# Altium footprint library lib_ic_FOOTPRINTS.PcbLib: 45 footprints (part 3 of 3)
Each footprint in its own frame and in the unit in brackets; x right, y up, seen from the top. Pads: shape width x height; smd on the part's side, far side on the other; paste and mask are expansions set on the pad; w line width, h text height; cw(c..) or ccw(c..) is an arc to the next point about the centre after c.
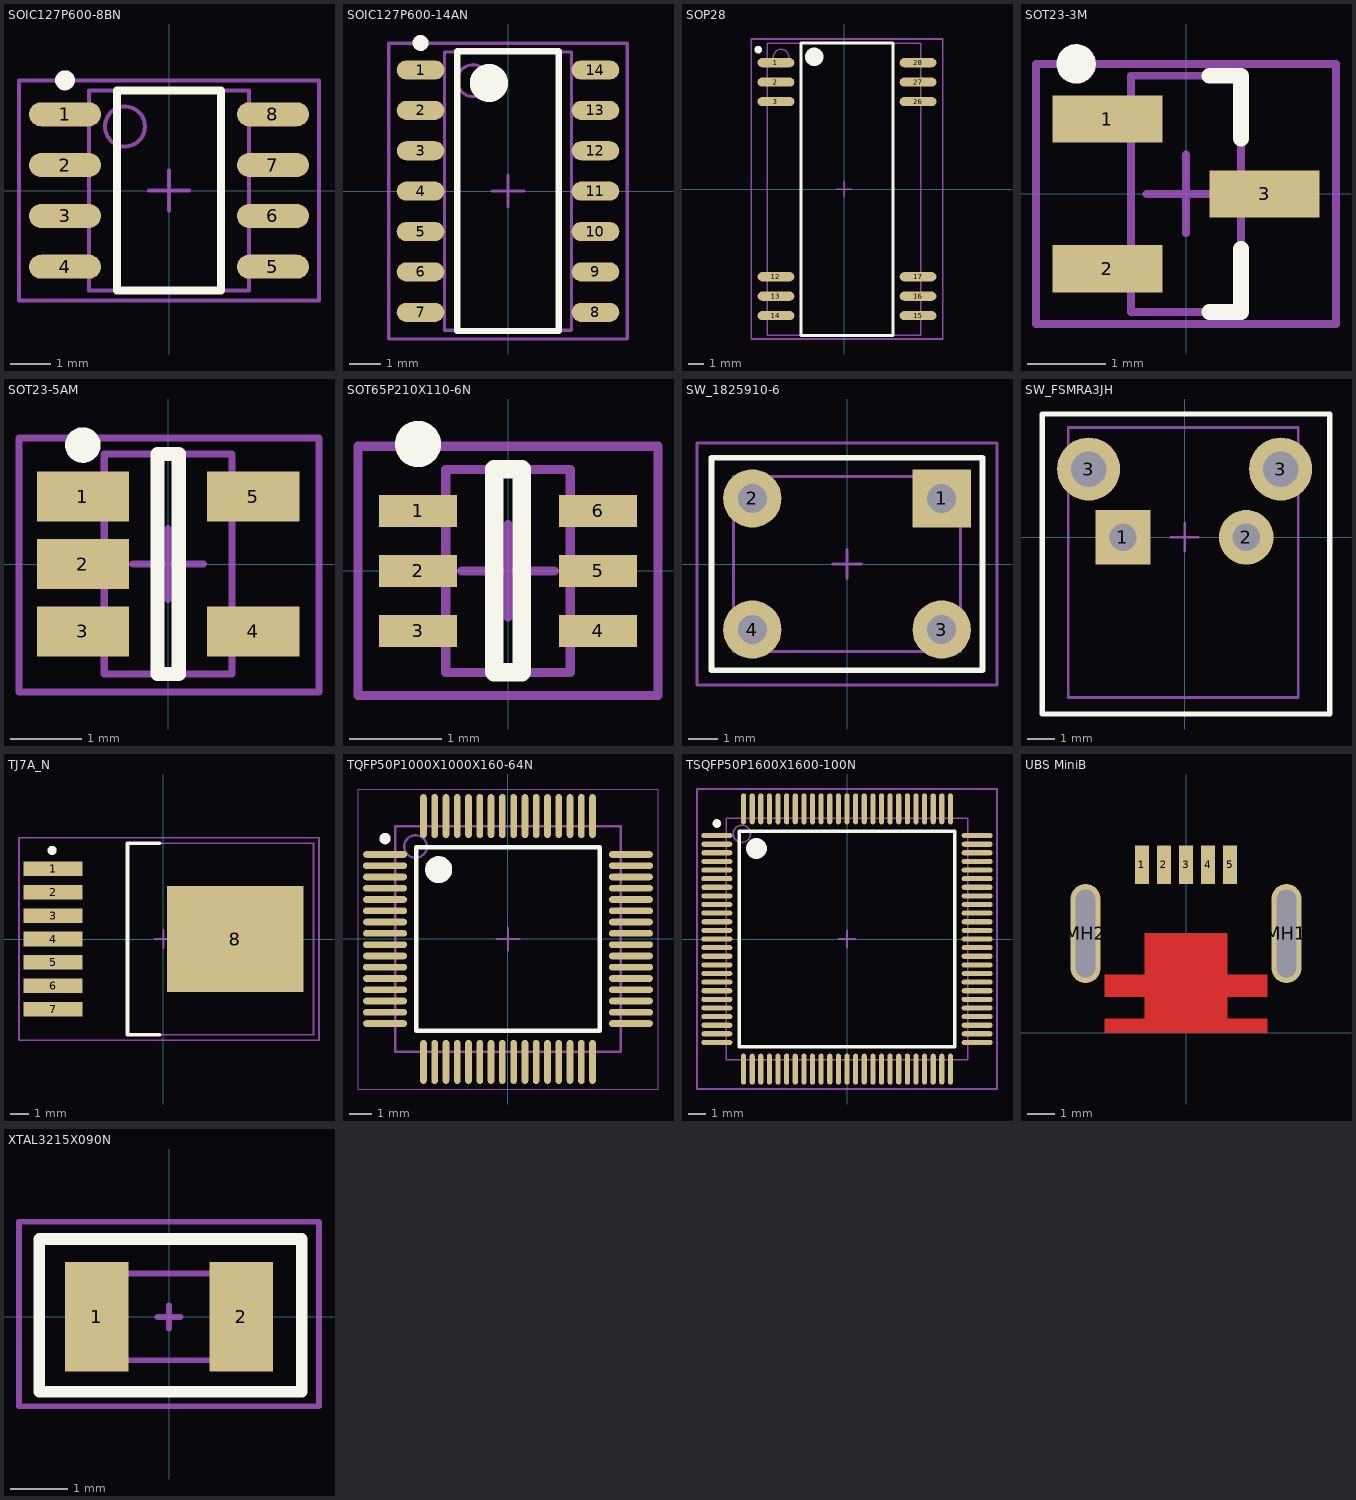
[diagram p2: the footprints below, top view; thin cyan lines are the x and y axes]

## SOIC127P600-8BN [mm] "SOIC, 8-Leads, Body 4.9x3.9mm, Pitch 1.27mm, IPC Medium Density"
height 2.59
pads (8):
  oval 1.8x0.6 smd: 1(-2.6,1.905) 2(-2.6,0.635) 3(-2.6,-0.635) 4(-2.6,-1.905) 5(2.6,-1.905) 6(2.6,-0.635) 7(2.6,0.635) 8(2.6,1.905)
Top Overlay:
  circle w0.25: c-2.6,2.755 r0.125
  lines w0.2: -1.3,-2.5 1.3,-2.5 1.3,2.5 -1.3,2.5 -1.3,-2.5
Mechanical 13:
  circle w0.1: c-1.1,1.6 r0.5
  lines w0.1: -2,-2.5 2,-2.5 2,2.5 -2,2.5 -2,-2.5
Mechanical 15:
  lines w0.1: -0.5,0 0.5,0 ; 0,-0.5 0,0.5 ; -3.75,-2.75 3.75,-2.75 3.75,2.75 -3.75,2.75 -3.75,-2.75
3D body: height 1.75, standoff 0, extent -3,-2.45 3,2.45

## SOIC127P600-14AN [mm] "SOIC, 14-Leads, Body 8.6x3.9mm, Pitch 1.27mm, IPC Medium Density"
height 1.73
pads (14):
  oval 1.5x0.6 smd: 1(-2.75,3.81) 2(-2.75,2.54) 3(-2.75,1.27) 4(-2.75,0) 5(-2.75,-1.27) 6(-2.75,-2.54) 7(-2.75,-3.81) 8(2.75,-3.81) 9(2.75,-2.54) 10(2.75,-1.27) 11(2.75,0) 12(2.75,1.27) 13(2.75,2.54) 14(2.75,3.81)
Top Overlay:
  circle w0.25: c-2.75,4.66 r0.125
  circle w0.6: c-0.6,3.4 r0.3
  lines w0.2: -1.6,-4.4 -1.6,4.4 1.6,4.4 1.6,-4.4 -1.6,-4.4
Mechanical 13:
  circle w0.1: c-1.1,3.475 r0.5
  lines w0.1: -2,-4.375 -2,4.375 2,4.375 2,-4.375 -2,-4.375
Mechanical 15:
  lines w0.1: -0.5,0 0.5,0 ; 0,-0.5 0,0.5 ; -3.75,-4.65 -3.75,4.65 3.75,4.65 3.75,-4.65 -3.75,-4.65
3D body: height 1.75, standoff 0, extent -3,-4.375 3,4.375

## SOP28 [mm] "28-Pin Plastic Battery Snaphat Small Outline Package 1.27 mm Pitch"
height 3.05
pads (12):
  oval 2.4x0.6 smd: 1(-4.445,8.255) 2(-4.445,6.985) 3(-4.445,5.715) 12(-4.445,-5.715) 13(-4.445,-6.985) 14(-4.445,-8.255) 15(4.826,-8.255) 16(4.826,-6.985) 17(4.826,-5.715) 26(4.826,5.715) 27(4.826,6.985) 28(4.826,8.255)
Top Overlay:
  circle w0.25: c-5.6,9.105 r0.125
  circle w0.6: c-1.951,8.636 r0.3
  lines w0.2: -2.809,-9.525 -2.809,9.525 ; -2.794,-9.55 3.175,-9.55 ; -2.794,9.55 3.175,9.55 ; 3.19,-9.55 3.19,9.55
Mechanical 13:
  circle w0.1: c-4.115,8.625 r0.5
  lines w0.1: -5.015,-9.525 -5.015,9.525 5.015,9.525 5.015,-9.525 -5.015,-9.525
Mechanical 15:
  lines w0.1: -6.06,9.8 -6.06,-9.779 6.441,-9.779 6.441,9.8 ; -6.032,9.8 6.413,9.8 ; -0.5,0 0.5,0 ; 0,-0.5 0,0.5

## SOT23-3M [mm] "SOT23, 3-Leads, Body 2.9x1.3mm, Pitch 0.95mm, Lead Span 2.5mm, IPC Low Density"
height 1.1
pads (3):
  rect 1.397x0.6 smd: 1(-1,0.95) 2(-1,-0.95) 3(1,0)
Top Overlay:
  circle w0.25: c-1.395,1.651 r0.125
  lines w0.2: 0.3,-1.5 0.7,-1.5 0.7,-0.7 ; 0.3,1.5 0.7,1.5 0.7,0.7
Mechanical 13:
  lines w0.1: -0.7,-1.5 0.7,-1.5 0.7,1.5 -0.7,1.5 -0.7,-1.5
Mechanical 15:
  lines w0.1: -0.5,0 0.5,0 ; 0,-0.5 0,0.5 ; -1.905,-1.651 1.905,-1.651 1.905,1.651 -1.905,1.651 -1.905,-1.651
3D body: height 1.06, standoff -0.04, extent -1.25,-1.5 1.25,1.5

## SOT23-5AM [mm] "SOT23, 5-Leads, Body 2.9x1.7mm, Pitch 0.95mm, Lead Span 2.8mm, IPC Low Density"
height 1.45
pads (5):
  rect 1.3x0.7 smd: 1(-1.2,0.95) 2(-1.2,0) 3(-1.2,-0.95) 4(1.2,-0.95) 5(1.2,0.95)
Top Overlay:
  circle w0.25: c-1.2,1.675 r0.125
  lines w0.2: -0.15,-1.55 0.15,-1.55 0.15,1.55 -0.15,1.55 -0.15,-1.55
Mechanical 13:
  lines w0.1: -0.9,-1.55 -0.9,1.55 0.9,1.55 0.9,-1.55 -0.9,-1.55
Mechanical 15:
  lines w0.1: -0.5,0 0.5,0 ; 0,-0.5 0,0.5 ; -2.1,-1.8 -2.1,1.775 2.125,1.775 2.125,-1.8 -2.1,-1.8
3D body: height 1.06, standoff -0.04, extent -1.186,-1.5 1.314,1.5

## SOT65P210X110-6N [mm] "SOT23, 6-Leads, Body 2,2x2,4mm (max), Pitch 0,65mm, IPC Medium Density"
height 1.1
pads (6):
  rect 0.85x0.35 smd: 1(-0.975,0.65) 2(-0.975,0) 3(-0.975,-0.65) 4(0.975,-0.65) 5(0.975,0) 6(0.975,0.65)
Top Overlay:
  circle w0.25: c-0.975,1.375 r0.125
  lines w0.2: -0.15,-1.1 -0.15,1.1 0.15,1.1 0.15,-1.1 -0.15,-1.1
Mechanical 13:
  lines w0.1: -0.675,-1.1 0.675,-1.1 0.675,1.1 -0.675,1.1 -0.675,-1.1
Mechanical 15:
  lines w0.1: -0.5,0 0.5,0 ; 0,-0.5 0,0.5 ; -1.625,-1.35 1.625,-1.35 1.625,1.35 -1.625,1.35 -1.625,-1.35
3D body: height 1.1, standoff 0.05, extent -0.675,-1.1 0.675,1.1

## SW_1825910-6 [mm] "1825910-6 (Formerly FSM4JH) Push Button"
pads (4):
  rect 2x2 hole 1: 1(3.25,2.25)
  round 2 hole 1: 2(-3.25,2.25) 3(3.25,-2.25) 4(-3.25,-2.25)
Top Overlay:
  lines w0.2: -4.65,-3.65 4.65,-3.65 4.65,3.65 -4.65,3.65 -4.65,-3.65
Mechanical 13:
  lines w0.1: -3.9,-3 -3.9,3 3.9,3 3.9,-3 -3.9,-3
Mechanical 15:
  lines w0.1: -0.5,0 0.5,0 ; 0,-0.5 0,0.5 ; -5.15,-4.15 -5.15,4.15 5.15,4.15 5.15,-4.15 -5.15,-4.15
3D body: height 5, standoff -3.51, extent -3.9,-2.995 3.9,2.995

## SW_FSMRA3JH [mm] "FSMRA3JH Push Button"
pads (4):
  rect 2x2 hole 1: 1(-2.25,0)
  round 2 hole 1: 2(2.25,0)
  round 2.3 hole 1.3: 3(-3.505,2.49) 3(3.505,2.49)
Top Overlay:
  lines w0.2: -5.2,-6.45 5.3,-6.45 5.3,4.5 -5.2,4.5 -5.2,-6.45
Mechanical 13:
  lines w0.1: -4.25,-5.85 -4.25,4.01 4.15,4.01 4.15,-5.85 -4.25,-5.85
Mechanical 15:
  lines w0.1: -0.5,0 0.5,0 ; 0,-0.5 0,0.5 ; -5.2,-6.45 -5.2,4.5 5.3,4.5 5.3,-6.45 -5.2,-6.45
3D body: height 7, standoff -3.52, extent -4.254,-5.851 4.154,3.991

## TJ7A_N [mm] "D2-PAK, 8-Leads, Body 9.9x10.2mm, Pitch 1.27mm, Lead Span 14mm, IPC Medium Density"
height 2.1
pads (8):
  rect 3.2x0.8 smd: 1(-6,3.81) 2(-6,2.54) 3(-6,1.27) 4(-6,0) 5(-6,-1.27) 6(-6,-2.54) 7(-6,-3.81)
  rect 7.4x5.75 smd: 8(3.9,0)
Top Overlay:
  circle w0.25: c-6.05,4.815 r0.125
  lines w0.2: -0.2,-5.2 -1.95,-5.2 -1.95,5.2 -0.2,5.2
Mechanical 13:
  lines w0.1: -1.95,-5.2 -1.95,5.2 8.15,5.2 8.15,-5.2 -1.95,-5.2
Mechanical 15:
  lines w0.1: -0.5,0 0.5,0 ; 0,-0.5 0,0.5 ; -7.85,-5.5 -7.85,5.5 8.45,5.5 8.45,-5.5 -7.85,-5.5
3D body: height 2.1, standoff 0, extent -1.949,-5.199 8.149,5.199

## TQFP50P1000X1000X160-64N [mm] "TQFP, 64-Leads, Body 10,00x10,00mm, Pitch 0,50mm, IPC Medium Density"
height 1.6
pads (64):
  oval 1.95x0.3 smd: 1(-5.45,3.75) 2(-5.45,3.25) 3(-5.45,2.75) 4(-5.45,2.25) 5(-5.45,1.75) 6(-5.45,1.25) 7(-5.45,0.75) 8(-5.45,0.25) 9(-5.45,-0.25) 10(-5.45,-0.75) 11(-5.45,-1.25) 12(-5.45,-1.75) 13(-5.45,-2.25) 14(-5.45,-2.75) 15(-5.45,-3.25) 16(-5.45,-3.75) 33(5.45,-3.75) 34(5.45,-3.25) 35(5.45,-2.75) 36(5.45,-2.25) 37(5.45,-1.75) 38(5.45,-1.25) 39(5.45,-0.75) 40(5.45,-0.25) 41(5.45,0.25) 42(5.45,0.75) 43(5.45,1.25) 44(5.45,1.75) 45(5.45,2.25) 46(5.45,2.75) 47(5.45,3.25) 48(5.45,3.75)
  oval 0.3x1.95 smd: 17(-3.75,-5.45) 18(-3.25,-5.45) 19(-2.75,-5.45) 20(-2.25,-5.45) 21(-1.75,-5.45) 22(-1.25,-5.45) 23(-0.75,-5.45) 24(-0.25,-5.45) 25(0.25,-5.45) 26(0.75,-5.45) 27(1.25,-5.45) 28(1.75,-5.45) 29(2.25,-5.45) 30(2.75,-5.45) 31(3.25,-5.45) 32(3.75,-5.45) 49(3.75,5.45) 50(3.25,5.45) 51(2.75,5.45) 52(2.25,5.45) 53(1.75,5.45) 54(1.25,5.45) 55(0.75,5.45) 56(0.25,5.45) 57(-0.25,5.45) 58(-0.75,5.45) 59(-1.25,5.45) 60(-1.75,5.45) 61(-2.25,5.45) 62(-2.75,5.45) 63(-3.25,5.45) 64(-3.75,5.45)
Top Overlay:
  circle w0.6: c-3.075,3.075 r0.3
  circle w0.25: c-5.45,4.45 r0.125
  lines w0.2: -4.075,-4.075 4.075,-4.075 4.075,4.075 -4.075,4.075 -4.075,-4.075
Mechanical 13:
  circle w0.1: c-4.1,4.1 r0.5
  lines w0.1: -5,-5 5,-5 5,5 -5,5 -5,-5
Mechanical 15:
  lines w0.05: -6.65,-6.65 6.65,-6.65 6.65,6.65 -6.65,6.65 -6.65,-6.65
  lines w0.1: -0.5,0 0.5,0 ; 0,-0.5 0,0.5
3D body: height 1, standoff 0, extent -5.787,-5.79 5.787,5.791

## TSQFP50P1600X1600-100N [mm] "Thin QFP, 100-Leads, Body 14x14mm, Pitch 0.5mm, IPC Medium Density"
height 1.6
pads (100):
  oval 1.8x0.3 smd: 1(-7.55,6) 2(-7.55,5.5) 3(-7.55,5) 4(-7.55,4.5) 5(-7.55,4) 6(-7.55,3.5) 7(-7.55,3) 8(-7.55,2.5) 9(-7.55,2) 10(-7.55,1.5) 11(-7.55,1) 12(-7.55,0.5) 13(-7.55,0) 14(-7.55,-0.5) 15(-7.55,-1) 16(-7.55,-1.5) 17(-7.55,-2) 18(-7.55,-2.5) 19(-7.55,-3) 20(-7.55,-3.5) 21(-7.55,-4) 22(-7.55,-4.5) 23(-7.55,-5) 24(-7.55,-5.5) 25(-7.55,-6) 51(7.55,-6) 52(7.55,-5.5) 53(7.55,-5) 54(7.55,-4.5) 55(7.55,-4) 56(7.55,-3.5) 57(7.55,-3) 58(7.55,-2.5) 59(7.55,-2) 60(7.55,-1.5) 61(7.55,-1) 62(7.55,-0.5) 63(7.55,0) 64(7.55,0.5) 65(7.55,1) 66(7.55,1.5) 67(7.55,2) 68(7.55,2.5) 69(7.55,3) 70(7.55,3.5) 71(7.55,4) 72(7.55,4.5) 73(7.55,5) 74(7.55,5.5) 75(7.55,6)
  oval 0.3x1.8 smd: 26(-6,-7.55) 27(-5.5,-7.55) 28(-5,-7.55) 29(-4.5,-7.55) 30(-4,-7.55) 31(-3.5,-7.55) 32(-3,-7.55) 33(-2.5,-7.55) 34(-2,-7.55) 35(-1.5,-7.55) 36(-1,-7.55) 37(-0.5,-7.55) 38(0,-7.55) 39(0.5,-7.55) 40(1,-7.55) 41(1.5,-7.55) 42(2,-7.55) 43(2.5,-7.55) 44(3,-7.55) 45(3.5,-7.55) 46(4,-7.55) 47(4.5,-7.55) 48(5,-7.55) 49(5.5,-7.55) 50(6,-7.55) 76(6,7.55) 77(5.5,7.55) 78(5,7.55) 79(4.5,7.55) 80(4,7.55) 81(3.5,7.55) 82(3,7.55) 83(2.5,7.55) 84(2,7.55) 85(1.5,7.55) 86(1,7.55) 87(0.5,7.55) 88(0,7.55) 89(-0.5,7.55) 90(-1,7.55) 91(-1.5,7.55) 92(-2,7.55) 93(-2.5,7.55) 94(-3,7.55) 95(-3.5,7.55) 96(-4,7.55) 97(-4.5,7.55) 98(-5,7.55) 99(-5.5,7.55) 100(-6,7.55)
Top Overlay:
  circle w0.25: c-7.55,6.7 r0.125
  circle w0.6: c-5.25,5.25 r0.3
  lines w0.2: -6.25,-6.25 -6.25,6.25 6.25,6.25 6.25,-6.25 -6.25,-6.25
Mechanical 13:
  circle w0.1: c-6.1,6.1 r0.5
  lines w0.1: -7,-7 -7,7 7,7 7,-7 -7,-7
Mechanical 15:
  lines w0.1: -0.5,0 0.5,0 ; 0,-0.5 0,0.5 ; -8.7,-8.7 -8.7,8.7 8.7,8.7 8.7,-8.7 -8.7,-8.7
3D body: height 1.6, standoff 0, extent -7,-7 7,7

## UBS MiniB [mm]
pads (7):
  rect 0.5x1.4 smd: 1(-1.6,6.1) 2(-0.8,6.1) 3(0,6.1) 4(0.8,6.1) 5(1.6,6.1)
  rrect100% 1.1x3.6 hole 0.7 slot 3.2 at 90 deg: MH1(3.65,3.6) MH2(-3.65,3.6)
Top Layer:
  pour cut-out: -1.5,0 1.5,0 1.5,3.6 -1.5,3.6
  pour cut-out: -1.5,2.1 -2.95,2.1 -2.95,1.3 -1.5,1.3
  pour cut-out: -1.5,0.5 -2.95,0.5 -2.95,0 -1.5,0
  pour cut-out: 2.95,0.5 1.5,0.5 1.5,0 2.95,0
  pour cut-out: 2.95,2.1 1.5,2.1 1.5,1.3 2.95,1.3
3D body: height 3.9, standoff 0.1, extent -3.85,-0.5 3.85,6.5

## XTAL3215X090N [mm] "Crystal, Body: 3.2mmm X 1.5mm"
height 0.9
pads (2):
  rect 1.1x1.9 smd: 1(-1.25,0) 2(1.25,0)
Top Overlay:
  lines w0.2: -2.25,-1.3 2.3,-1.3 2.3,1.35 -2.25,1.35 -2.25,-1.3
Mechanical 13:
  lines w0.1: -1.6,-0.75 -1.6,0.75 1.6,0.75 1.6,-0.75 -1.6,-0.75
Mechanical 15:
  lines w0.1: -0.2,0 0.2,0 ; 0,-0.2 0,0.2 ; -2.6,-1.55 -2.6,1.65 2.6,1.65 2.6,-1.55 -2.6,-1.55
3D body: height 0.9, standoff 0, extent -1.6,-0.75 1.6,0.75
3D body: height 0.9, standoff 0.9, extent -1.6,-0.75 1.6,0.75